# EAGLE library part LT1370 (library ee192)
LT1370 Linear Technology 500kHz High Efficiency 6A Switching Regulator 7 Pin TO220 Package
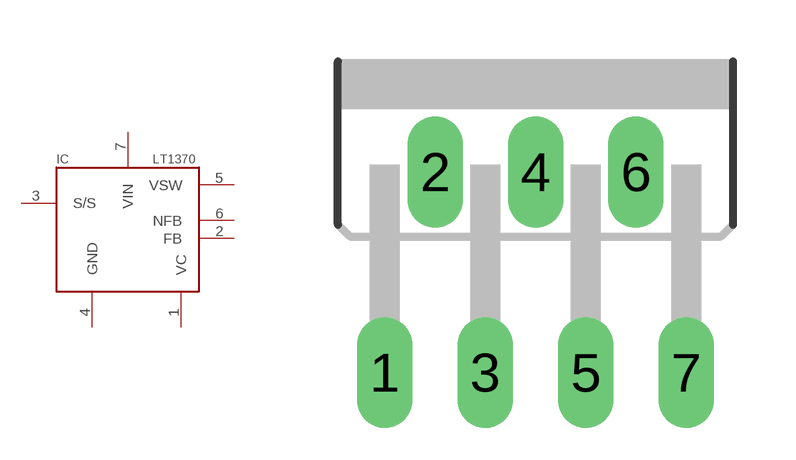
[diagram p2: symbol with the pads of TO220-7; footprint TO220-7]

Designator prefix IC

## LT1370  [TO220-7]
1  VC
2  FB
3  S/S
4  GND
5  VSW
6  NFB
7  VIN

## Footprint TO220-7 (pad centres in mm)
drill 0.9 long: 1 -3.81,-3.81; 2 -2.54,1.27; 3 -1.27,-3.81; 4 0,1.27; 5 1.27,-3.81; 6 2.54,1.27; 7 3.81,-3.81